# EAGLE library part DF17-40M (library Lysenko_Eagle_Lib)
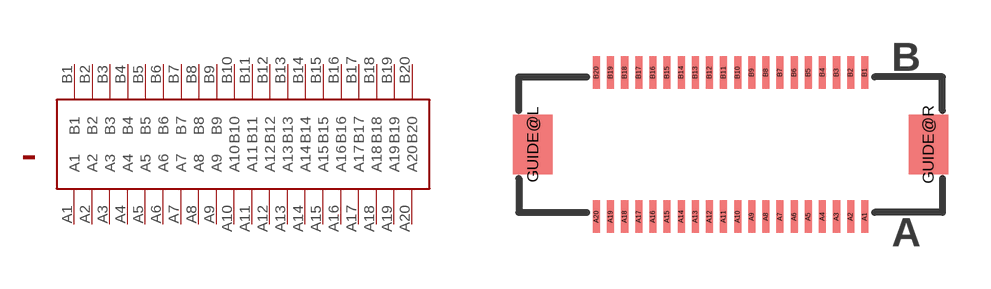
[diagram p3: symbol with the pads of DF17-40M; footprint DF17-40M]

Designator prefix -

## DF17-40M  [DF17-40M]
A1  A1
A2  A2
A3  A3
A4  A4
A5  A5
A6  A6
A7  A7
A8  A8
A9  A9
A10  A10
A11  A11
A12  A12
A13  A13
A14  A14
A15  A15
A16  A16
A17  A17
A18  A18
A19  A19
A20  A20
B1  B1
B2  B2
B3  B3
B4  B4
B5  B5
B6  B6
B7  B7
B8  B8
B9  B9
B10  B10
B11  B11
B12  B12
B13  B13
B14  B14
B15  B15
B16  B16
B17  B17
B18  B18
B19  B19
B20  B20

## Footprint DF17-40M (pad centres in mm)
smd 0.25 x 1.15: A1 9.08,-2.553; A2 8.58,-2.553; A3 8.08,-2.553; A4 7.58,-2.553; A5 7.08,-2.553; A6 6.58,-2.553; A7 6.08,-2.553; A8 5.58,-2.553; A9 5.08,-2.553; A10 4.58,-2.553; A11 4.08,-2.553; A12 3.58,-2.553; A13 3.08,-2.553; A14 2.58,-2.553; A15 2.08,-2.553; A16 1.58,-2.553; A17 1.08,-2.553; A18 0.58,-2.553; A19 0.08,-2.553; A20 -0.42,-2.553; B1 9.08,2.553; B2 8.58,2.553; B3 8.08,2.553; B4 7.58,2.553; B5 7.08,2.553; B6 6.58,2.553; B7 6.08,2.553; B8 5.58,2.553; B9 5.08,2.553; B10 4.58,2.553; B11 4.08,2.553; B12 3.58,2.553; B13 3.08,2.553; B14 2.58,2.553; B15 2.08,2.553; B16 1.58,2.553; B17 1.08,2.553; B18 0.58,2.553; B19 0.08,2.553; B20 -0.42,2.553
smd 1.4 x 2.1: GUIDE@L -2.67,0; GUIDE@R 11.33,0